# EAGLE library part C3004-SVC02X4 (library Connetors_ACTIVE14)
3mm pin pitch ,AWG #22 to #24
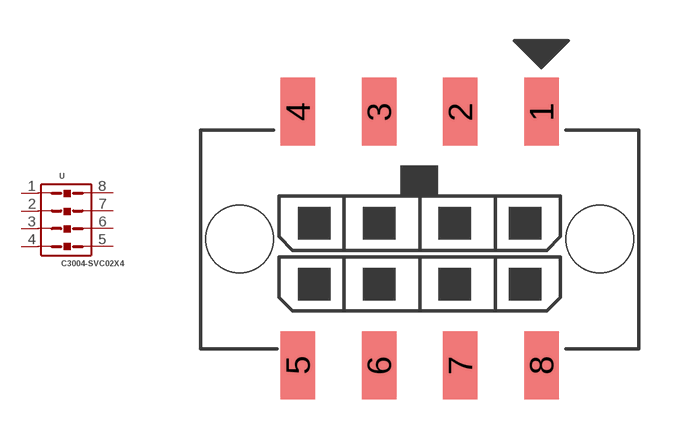
[diagram p6: symbol with the pads of C3004-SV02X4; footprint C3004-SV02X4]

Designator prefix -

## C3004-SVC02X4_SMT  [C3004-SV02X4]
1  1  pas
2  2  pas
3  3  pas
4  4  pas
5  5  pas
6  6  pas
7  7  pas
8  8  pas

## Footprint C3004-SV02X4 (pad centres in mm)
smd 1.27 x 2.51: 1 9,9.37; 2 6,9.37; 3 3,9.37; 4 0,9.37; 5 0,0; 6 3,0; 7 6,0; 8 9,0
hole 2.5 at -2.15,4.67
hole 2.5 at 11.15,4.67